# EAGLE library part STM32U575VIT6 (library Project-H10)
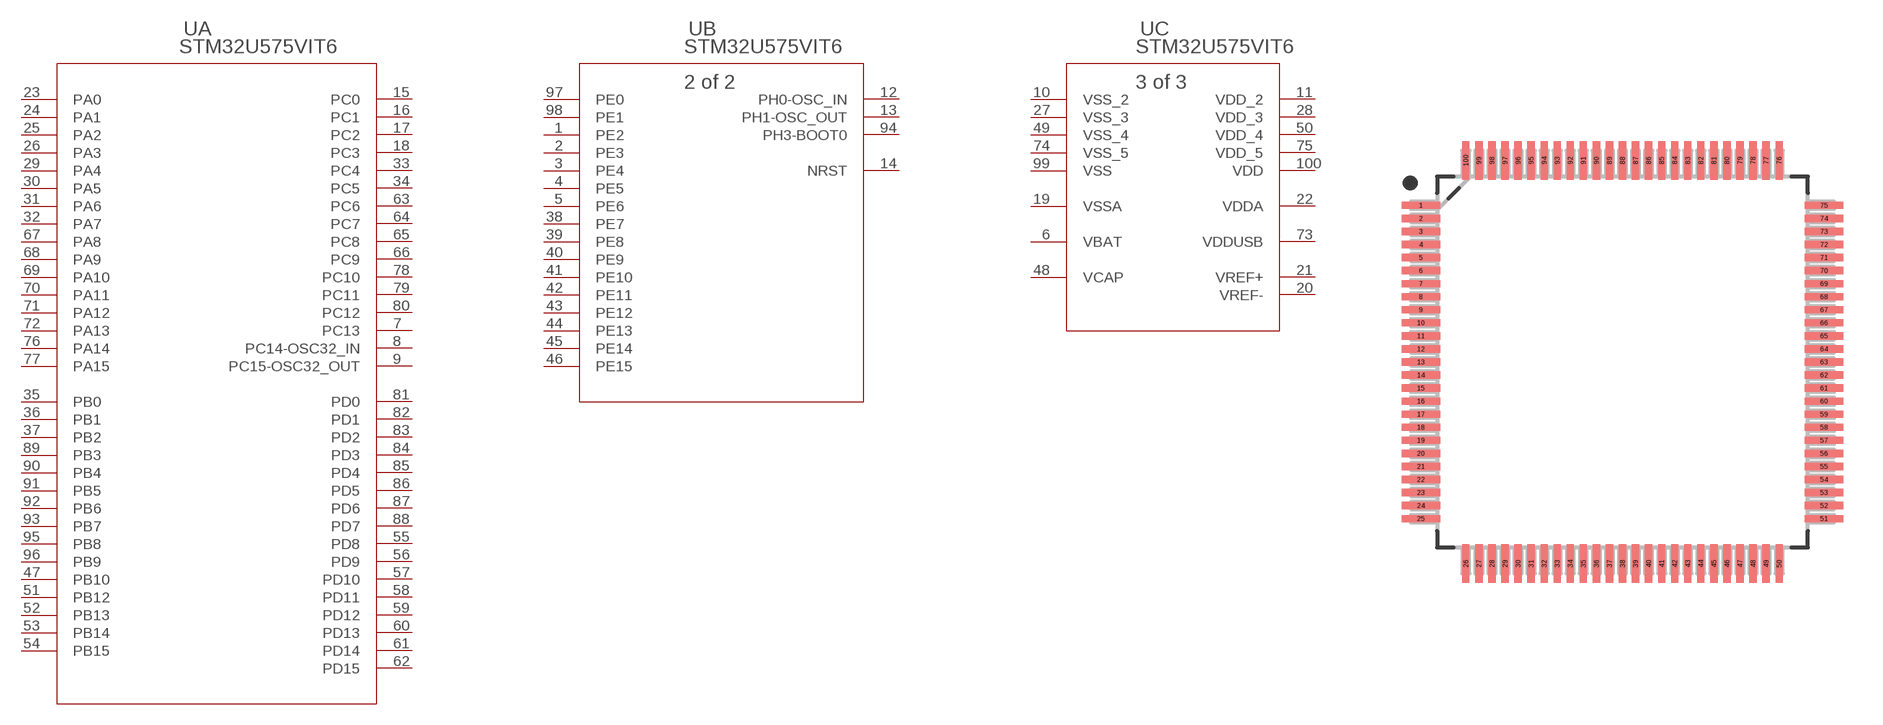
[diagram p0: symbol with the pads of LQFP-100_STM; footprint LQFP-100_STM]

Designator prefix U; gates A=STM32U575VIT6 B=STM32U575VIT6_1 C=STM32U575VIT6_2

## STM32U575VIT6LQFP-100_STM (COPYRIGHT: Copyright (C) 2023 Ultra Librarian. All rights reserved.; MANUFACTURER_PART_NUMBER: STM32U575VIT6; MFR_NAME: STMicroelectronics)  [LQFP-100_STM]
1  B:PE2
2  B:PE3
3  B:PE4
4  B:PE5
5  B:PE6
6  C:VBAT  pwr
7  A:PC13
8  A:PC14-OSC32_IN
9  A:PC15-OSC32_OUT
10  C:VSS_2  pwr
11  C:VDD_2  pwr
12  B:PH0-OSC_IN
13  B:PH1-OSC_OUT
14  B:NRST
15  A:PC0
16  A:PC1
17  A:PC2
18  A:PC3
19  C:VSSA  pwr
20  C:VREF-  pwr
21  C:VREF+  pwr
22  C:VDDA  pwr
23  A:PA0
24  A:PA1
25  A:PA2
26  A:PA3
27  C:VSS_3  pwr
28  C:VDD_3  pwr
29  A:PA4
30  A:PA5
31  A:PA6
32  A:PA7
33  A:PC4
34  A:PC5
35  A:PB0
36  A:PB1
37  A:PB2
38  B:PE7
39  B:PE8
40  B:PE9
41  B:PE10
42  B:PE11
43  B:PE12
44  B:PE13
45  B:PE14
46  B:PE15
47  A:PB10
48  C:VCAP  pwr
49  C:VSS_4  pwr
50  C:VDD_4  pwr
51  A:PB12
52  A:PB13
53  A:PB14
54  A:PB15
55  A:PD8
56  A:PD9
57  A:PD10
58  A:PD11
59  A:PD12
60  A:PD13
61  A:PD14
62  A:PD15
63  A:PC6
64  A:PC7
65  A:PC8
66  A:PC9
67  A:PA8
68  A:PA9
69  A:PA10
70  A:PA11
71  A:PA12
72  A:PA13
73  C:VDDUSB  pwr
74  C:VSS_5  pwr
75  C:VDD_5  pwr
76  A:PA14
77  A:PA15
78  A:PC10
79  A:PC11
80  A:PC12
81  A:PD0
82  A:PD1
83  A:PD2
84  A:PD3
85  A:PD4
86  A:PD5
87  A:PD6
88  A:PD7
89  A:PB3
90  A:PB4
91  A:PB5
92  A:PB6
93  A:PB7
94  B:PH3-BOOT0
95  A:PB8
96  A:PB9
97  B:PE0
98  B:PE1
99  C:VSS  pwr
100  C:VDD  pwr

## Footprint LQFP-100_STM (pad centres in mm)
smd 1.473 x 0.279: 1 -7.722,6; 2 -7.722,5.5; 3 -7.722,5; 4 -7.722,4.5; 5 -7.722,4; 6 -7.722,3.5; 7 -7.722,3; 8 -7.722,2.5; 9 -7.722,2; 10 -7.722,1.5; 11 -7.722,1; 12 -7.722,0.5; 13 -7.722,0; 14 -7.722,-0.5; 15 -7.722,-1; 16 -7.722,-1.5; 17 -7.722,-2; 18 -7.722,-2.5; 19 -7.722,-3; 20 -7.722,-3.5; 21 -7.722,-4; 22 -7.722,-4.5; 23 -7.722,-5; 24 -7.722,-5.5; 25 -7.722,-6; 51 7.722,-6; 52 7.722,-5.5; 53 7.722,-5; 54 7.722,-4.5; 55 7.722,-4; 56 7.722,-3.5; 57 7.722,-3; 58 7.722,-2.5; 59 7.722,-2; 60 7.722,-1.5; 61 7.722,-1; 62 7.722,-0.5; 63 7.722,0; 64 7.722,0.5; 65 7.722,1; 66 7.722,1.5; 67 7.722,2; 68 7.722,2.5; 69 7.722,3; 70 7.722,3.5; 71 7.722,4; 72 7.722,4.5; 73 7.722,5; 74 7.722,5.5; 75 7.722,6
smd 0.279 x 1.473: 26 -6,-7.722; 27 -5.5,-7.722; 28 -5,-7.722; 29 -4.5,-7.722; 30 -4,-7.722; 31 -3.5,-7.722; 32 -3,-7.722; 33 -2.5,-7.722; 34 -2,-7.722; 35 -1.5,-7.722; 36 -1,-7.722; 37 -0.5,-7.722; 38 0,-7.722; 39 0.5,-7.722; 40 1,-7.722; 41 1.5,-7.722; 42 2,-7.722; 43 2.5,-7.722; 44 3,-7.722; 45 3.5,-7.722; 46 4,-7.722; 47 4.5,-7.722; 48 5,-7.722; 49 5.5,-7.722; 50 6,-7.722; 76 6,7.722; 77 5.5,7.722; 78 5,7.722; 79 4.5,7.722; 80 4,7.722; 81 3.5,7.722; 82 3,7.722; 83 2.5,7.722; 84 2,7.722; 85 1.5,7.722; 86 1,7.722; 87 0.5,7.722; 88 0,7.722; 89 -0.5,7.722; 90 -1,7.722; 91 -1.5,7.722; 92 -2,7.722; 93 -2.5,7.722; 94 -3,7.722; 95 -3.5,7.722; 96 -4,7.722; 97 -4.5,7.722; 98 -5,7.722; 99 -5.5,7.722; 100 -6,7.722